# Altium integrated library TI Data Converters Analog to Digital Converter.IntLib: 2198 symbols (part 8 of 164)
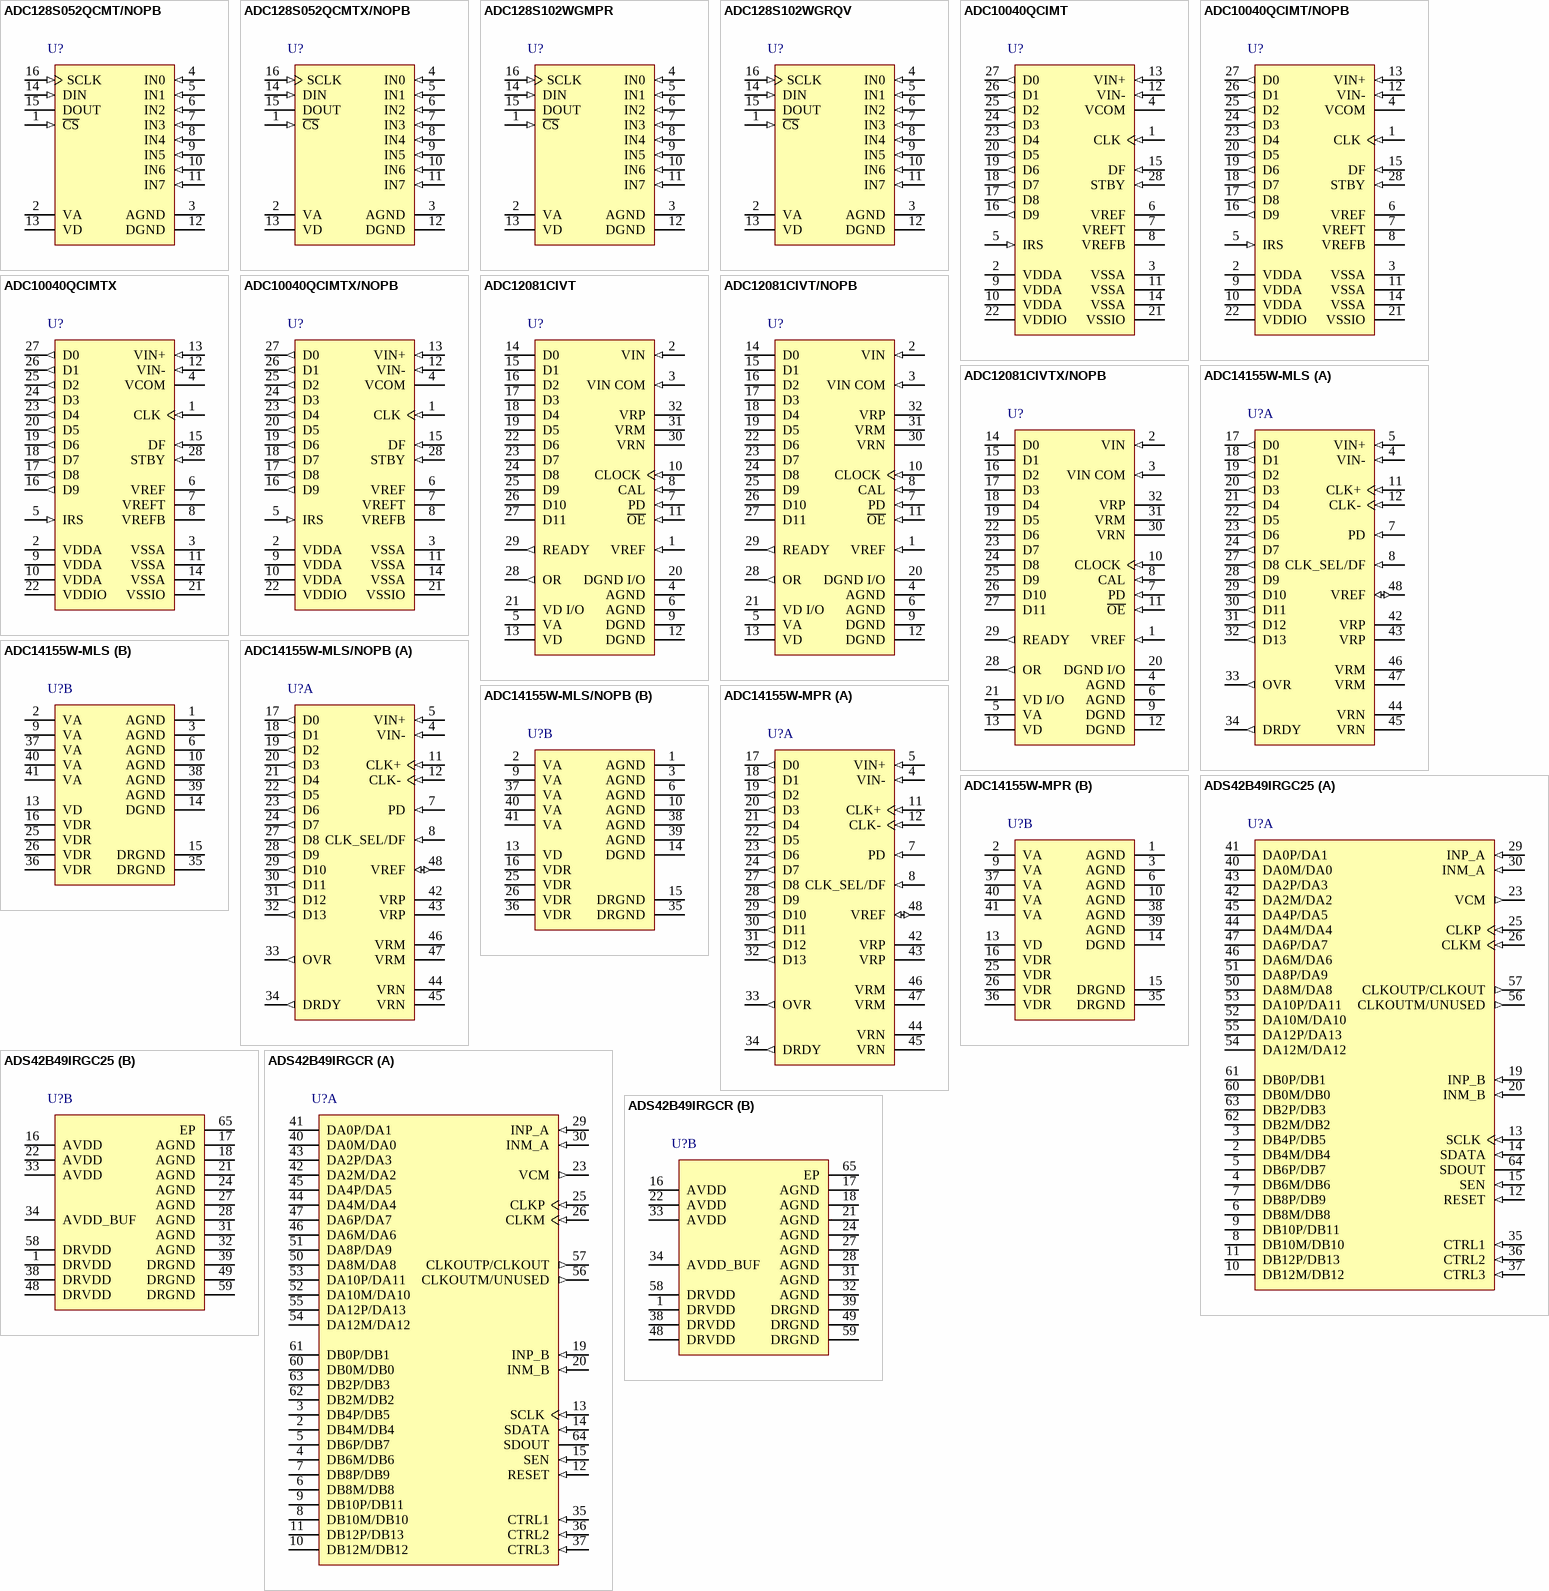
[diagram p133: symbols ADC128S052QCMT/NOPB to ADS42B49IRGCR]

## ADC14155W-MLS/NOPB
designator U?
14-Bit, 155 MSPS, 1.1 GHz Bandwidth ADC, -55 to 125 degC, 48-pin CFP (NBA48), Green (RoHS & no Sb/Br); Manufacturer: Texas Instruments; PartNumber: ADC14155W-MLS/NOPB; # Input Channels: 1; Analog Voltage AV/DD(Max)(V): 3.6; Analog Voltage AV/DD(Min)(V): 3; Architecture: Pipeline; Digital Supply(Min)(V): 1.6; ENOB(Bits): 11.3; INL(Max)(+/-LSB): 5; Resolution(Bits): 14; Sample Rate(max)(SPS): 155M; SFDR(dB): 82.3; SINAD(dB): 69.9; SNR(dB): 70.1; SubFamily: High Speed ADC (>10MSPS); DatasheetVersion: SNAS378I; PackageVersion: Rev. B, 08/2012; PackageReference: NBA48; PackageDescription: 48-Pin Ceramic, Metal Flat Pack, Body 11.5 x 11.5 mm, Pitch 0.635 mm; Supplier 1: Digi-Key; Supplier Part Number 1: ADS7866IDBVTG4-ND; Digital Supply(Max)(V): 3.6; Eco-Plan: Green (RoHS & no Sb/Br); Mounting Technology: Surface Mount; ComponentLink1Description: Manufacturer URL; ComponentLink1URL: http://www.ti.com/; ComponentLink2Description: Datasheet; ComponentLink2URL: http://www.ti.com/lit/ds/symlink/adc14155qml-sp.pdf; ComponentLink3Description: Package Specification; ComponentLink3URL: http://www.ti.com/litv/pdf/mcqf021
footprint TI-NBA48_N (CQFP, 48-Leads, Body 11.5x11.5mm, Pitch 0.635mm, Thermal Pad 6.13x6.13mm, IPC Medium Density)
footprint TI-NBA48_L (CQFP, 48-Leads, Body 11.5x11.5mm, Pitch 0.635mm, Thermal Pad 6.13x6.13mm, IPC High Density)
footprint TI-NBA48_M (CQFP, 48-Leads, Body 11.5x11.5mm, Pitch 0.635mm, Thermal Pad 6.13x6.13mm, IPC Low Density)
part A pins: 4 VIN- (in) "Differential analog input pins. The differential full-scale input signal level is two times the reference voltage with each input pin signal centered on a common mode voltage, VCM.", 5 VIN+ (in) "Differential analog input pins. The differential full-scale input signal level is two times the reference voltage with each input pin signal centered on a common mode voltage, VCM.", 7 PD (in) "This is a two-state input controlling Power Down. PD = VA, Power Down is enabled. In the Power Down state only the reference voltage circuitry remains active and power dissipation is reduced. PD = AGND, Normal operation.", 8 CLK_SEL/DF (in) "This is a four-state pin controlling the input clock mode and output data format. CLK_SEL/DF = VA, CLK+ and CLK? are configured as a differential clock input. The output data format is 2's complement. CLK_SEL/DF (See Datasheet)", 11 CLK+ (in) "The clock input pins can be configured to accept either a singleended or a differential clock input signal. When the single-ended clock mode is selected through CLK_SEL/DF pin 8), connect the clock input signal to the CLK+ (See Datasheet)", 12 CLK- (in) "The clock input pins can be configured to accept either a singleended or a differential clock input signal. When the single-ended clock mode is selected through CLK_SEL/DF pin 8), connect the clock input signal to the CLK+ (See Datasheet)", 17 D0 (out) "Digital data output pins that make up the 14-bit conversion result. D0 (pin 17) is the LSB, while D13 (pin 32) is the MSB of the output word. Output levels are CMOS compatible.", 18 D1 (out) "Digital data output pins that make up the 14-bit conversion result. D0 (pin 17) is the LSB, while D13 (pin 32) is the MSB of the output word. Output levels are CMOS compatible.", 19 D2 (out) "Digital data output pins that make up the 14-bit conversion result. D0 (pin 17) is the LSB, while D13 (pin 32) is the MSB of the output word. Output levels are CMOS compatible.", 20 D3 (out) "Digital data output pins that make up the 14-bit conversion result. D0 (pin 17) is the LSB, while D13 (pin 32) is the MSB of the output word. Output levels are CMOS compatible.", 21 D4 (out) "Digital data output pins that make up the 14-bit conversion result. D0 (pin 17) is the LSB, while D13 (pin 32) is the MSB of the output word. Output levels are CMOS compatible.", 22 D5 (out) "Digital data output pins that make up the 14-bit conversion result. D0 (pin 17) is the LSB, while D13 (pin 32) is the MSB of the output word. Output levels are CMOS compatible.", 23 D6 (out) "Digital data output pins that make up the 14-bit conversion result. D0 (pin 17) is the LSB, while D13 (pin 32) is the MSB of the output word. Output levels are CMOS compatible.", 24 D7 (out) "Digital data output pins that make up the 14-bit conversion result. D0 (pin 17) is the LSB, while D13 (pin 32) is the MSB of the output word. Output levels are CMOS compatible.", 27 D8 (out) "Digital data output pins that make up the 14-bit conversion result. D0 (pin 17) is the LSB, while D13 (pin 32) is the MSB of the output word. Output levels are CMOS compatible.", 28 D9 (out) "Digital data output pins that make up the 14-bit conversion result. D0 (pin 17) is the LSB, while D13 (pin 32) is the MSB of the output word. Output levels are CMOS compatible.", 29 D10 (out) "Digital data output pins that make up the 14-bit conversion result. D0 (pin 17) is the LSB, while D13 (pin 32) is the MSB of the output word. Output levels are CMOS compatible.", 30 D11 (out) "Digital data output pins that make up the 14-bit conversion result. D0 (pin 17) is the LSB, while D13 (pin 32) is the MSB of the output word. Output levels are CMOS compatible.", 31 D12 (out) "Digital data output pins that make up the 14-bit conversion result. D0 (pin 17) is the LSB, while D13 (pin 32) is the MSB of the output word. Output levels are CMOS compatible.", 32 D13 (out) "Digital data output pins that make up the 14-bit conversion result. D0 (pin 17) is the LSB, while D13 (pin 32) is the MSB of the output word. Output levels are CMOS compatible.", 33 OVR (out) "Over-Range Indicator. This output is set HIGH when the input amplitude exceeds the 14-bit conversion range (0 to 16383).", 34 DRDY (out) "Data Ready Strobe. This pin is used to clock the output data. It has the same frequency as the sampling clock. One word of data is output in each cycle of this signal. The rising edge of this signal should be used to capture (See Datasheet)", 42 VRP "These pins should each be bypassed to AGND with a low ESL (equivalent series inductance) 0.1 uF capacitor placed very close to the pin to minimize stray inductance. A 0.1 uF capacitor should be placed between VRP and VRN as (See Datasheet)", 43 VRP "These pins should each be bypassed to AGND with a low ESL (equivalent series inductance) 0.1 uF capacitor placed very close to the pin to minimize stray inductance. A 0.1 uF capacitor should be placed between VRP and VRN as (See Datasheet)", 44 VRN "These pins should each be bypassed to AGND with a low ESL (equivalent series inductance) 0.1 uF capacitor placed very close to the pin to minimize stray inductance. A 0.1 uF capacitor should be placed between VRP and VRN as (See Datasheet)", 45 VRN "These pins should each be bypassed to AGND with a low ESL (equivalent series inductance) 0.1 uF capacitor placed very close to the pin to minimize stray inductance. A 0.1 uF capacitor should be placed between VRP and VRN as (See Datasheet)", 46 VRM "These pins should each be bypassed to AGND with a low ESL (equivalent series inductance) 0.1 uF capacitor placed very close to the pin to minimize stray inductance. A 0.1 uF capacitor should be placed between VRP and VRN as (See Datasheet)", 47 VRM "These pins should each be bypassed to AGND with a low ESL (equivalent series inductance) 0.1 uF capacitor placed very close to the pin to minimize stray inductance. A 0.1 uF capacitor should be placed between VRP and VRN as (See Datasheet)", 48 VREF (io) "This pin can be used as either the +1.0V internal reference voltage output (internal reference operation) or as the external reference voltage input (external reference operation). To use the internal reference, VREF should (See Datasheet)"
part B pins: 1 AGND (power) "The ground return for the analog supply.", 2 VA (power) "Positive analog supply pins. These pins should be connected to a quiet +3.3V source and be bypassed to AGND with 100 pF and 0.1 uF capacitors located close to the power pins.", 3 AGND (power) "The ground return for the analog supply.", 6 AGND (power) "The ground return for the analog supply.", 9 VA (power) "Positive analog supply pins. These pins should be connected to a quiet +3.3V source and be bypassed to AGND with 100 pF and 0.1 uF capacitors located close to the power pins.", 10 AGND (power) "The ground return for the analog supply.", 13 VD (power) "Positive digital supply pin. This pin should be connected to a quiet +3.3V source and be bypassed to DGND with a 100 pF and 0.1 uF capacitor located close to the power pin.", 14 DGND (power) "The ground return for the digital supply", 15 DRGND (power) "The ground return for the digital output driver supply. These pins should be connected to the system digital ground. See LAYOUT AND GROUNDING (Layout and Grounding) for more details.", 16 VDR (power) "Positive driver supply pin for the output drivers. This pin should be connected to a quiet voltage source of +1.8V and be bypassed to DRGND with 100 pF and 0.1 uF capacitors located close to the power pins.", 25 VDR (power) "Positive driver supply pin for the output drivers. This pin should be connected to a quiet voltage source of +1.8V and be bypassed to DRGND with 100 pF and 0.1 uF capacitors located close to the power pins.", 26 VDR (power) "Positive driver supply pin for the output drivers. This pin should be connected to a quiet voltage source of +1.8V and be bypassed to DRGND with 100 pF and 0.1 uF capacitors located close to the power pins.", 35 DRGND (power) "The ground return for the digital output driver supply. These pins should be connected to the system digital ground. See LAYOUT AND GROUNDING (Layout and Grounding) for more details.", 36 VDR (power) "Positive driver supply pin for the output drivers. This pin should be connected to a quiet voltage source of +1.8V and be bypassed to DRGND with 100 pF and 0.1 uF capacitors located close to the power pins.", 37 VA (power) "Positive analog supply pins. These pins should be connected to a quiet +3.3V source and be bypassed to AGND with 100 pF and 0.1 uF capacitors located close to the power pins.", 38 AGND (power) "The ground return for the analog supply.", 39 AGND (power) "The ground return for the analog supply.", 40 VA (power) "Positive analog supply pins. These pins should be connected to a quiet +3.3V source and be bypassed to AGND with 100 pF and 0.1 uF capacitors located close to the power pins.", 41 VA (power) "Positive analog supply pins. These pins should be connected to a quiet +3.3V source and be bypassed to AGND with 100 pF and 0.1 uF capacitors located close to the power pins."

## ADC14155W-MPR
designator U?
14-Bit, 155 MSPS, 1.1 GHz Bandwidth ADC, -55 to 125 degC, 48-pin CFP (NBA48), Green (RoHS & no Sb/Br); Manufacturer: Texas Instruments; PartNumber: ADC14155W-MPR; # Input Channels: 1; Analog Voltage AV/DD(Max)(V): 3.6; Analog Voltage AV/DD(Min)(V): 3; Architecture: Pipeline; Digital Supply(Min)(V): 1.6; ENOB(Bits): 11.3; INL(Max)(+/-LSB): 5; Resolution(Bits): 14; Sample Rate(max)(SPS): 155M; SFDR(dB): 82.3; SINAD(dB): 69.9; SNR(dB): 70.1; SubFamily: High Speed ADC (>10MSPS); DatasheetVersion: SNAS378I; PackageVersion: Rev. B, 08/2012; PackageReference: NBA48; PackageDescription: 48-Pin Ceramic, Metal Flat Pack, Body 11.5 x 11.5 mm, Pitch 0.635 mm; Supplier 1: Digi-Key; Supplier Part Number 1: 296-25890-2-ND; Digital Supply(Max)(V): 3.6; Eco-Plan: Green (RoHS & no Sb/Br); Mounting Technology: Surface Mount; ComponentLink1Description: Manufacturer URL; ComponentLink1URL: http://www.ti.com/; ComponentLink2Description: Datasheet; ComponentLink2URL: http://www.ti.com/lit/ds/symlink/adc14155qml-sp.pdf; ComponentLink3Description: Package Specification; ComponentLink3URL: http://www.ti.com/litv/pdf/mcqf021
footprint TI-NBA48_N (CQFP, 48-Leads, Body 11.5x11.5mm, Pitch 0.635mm, Thermal Pad 6.13x6.13mm, IPC Medium Density)
footprint TI-NBA48_L (CQFP, 48-Leads, Body 11.5x11.5mm, Pitch 0.635mm, Thermal Pad 6.13x6.13mm, IPC High Density)
footprint TI-NBA48_M (CQFP, 48-Leads, Body 11.5x11.5mm, Pitch 0.635mm, Thermal Pad 6.13x6.13mm, IPC Low Density)
part A pins: 4 VIN- (in) "Differential analog input pins. The differential full-scale input signal level is two times the reference voltage with each input pin signal centered on a common mode voltage, VCM.", 5 VIN+ (in) "Differential analog input pins. The differential full-scale input signal level is two times the reference voltage with each input pin signal centered on a common mode voltage, VCM.", 7 PD (in) "This is a two-state input controlling Power Down. PD = VA, Power Down is enabled. In the Power Down state only the reference voltage circuitry remains active and power dissipation is reduced. PD = AGND, Normal operation.", 8 CLK_SEL/DF (in) "This is a four-state pin controlling the input clock mode and output data format. CLK_SEL/DF = VA, CLK+ and CLK? are configured as a differential clock input. The output data format is 2's complement. CLK_SEL/DF (See Datasheet)", 11 CLK+ (in) "The clock input pins can be configured to accept either a singleended or a differential clock input signal. When the single-ended clock mode is selected through CLK_SEL/DF pin 8), connect the clock input signal to the CLK+ (See Datasheet)", 12 CLK- (in) "The clock input pins can be configured to accept either a singleended or a differential clock input signal. When the single-ended clock mode is selected through CLK_SEL/DF pin 8), connect the clock input signal to the CLK+ (See Datasheet)", 17 D0 (out) "Digital data output pins that make up the 14-bit conversion result. D0 (pin 17) is the LSB, while D13 (pin 32) is the MSB of the output word. Output levels are CMOS compatible.", 18 D1 (out) "Digital data output pins that make up the 14-bit conversion result. D0 (pin 17) is the LSB, while D13 (pin 32) is the MSB of the output word. Output levels are CMOS compatible.", 19 D2 (out) "Digital data output pins that make up the 14-bit conversion result. D0 (pin 17) is the LSB, while D13 (pin 32) is the MSB of the output word. Output levels are CMOS compatible.", 20 D3 (out) "Digital data output pins that make up the 14-bit conversion result. D0 (pin 17) is the LSB, while D13 (pin 32) is the MSB of the output word. Output levels are CMOS compatible.", 21 D4 (out) "Digital data output pins that make up the 14-bit conversion result. D0 (pin 17) is the LSB, while D13 (pin 32) is the MSB of the output word. Output levels are CMOS compatible.", 22 D5 (out) "Digital data output pins that make up the 14-bit conversion result. D0 (pin 17) is the LSB, while D13 (pin 32) is the MSB of the output word. Output levels are CMOS compatible.", 23 D6 (out) "Digital data output pins that make up the 14-bit conversion result. D0 (pin 17) is the LSB, while D13 (pin 32) is the MSB of the output word. Output levels are CMOS compatible.", 24 D7 (out) "Digital data output pins that make up the 14-bit conversion result. D0 (pin 17) is the LSB, while D13 (pin 32) is the MSB of the output word. Output levels are CMOS compatible.", 27 D8 (out) "Digital data output pins that make up the 14-bit conversion result. D0 (pin 17) is the LSB, while D13 (pin 32) is the MSB of the output word. Output levels are CMOS compatible.", 28 D9 (out) "Digital data output pins that make up the 14-bit conversion result. D0 (pin 17) is the LSB, while D13 (pin 32) is the MSB of the output word. Output levels are CMOS compatible.", 29 D10 (out) "Digital data output pins that make up the 14-bit conversion result. D0 (pin 17) is the LSB, while D13 (pin 32) is the MSB of the output word. Output levels are CMOS compatible.", 30 D11 (out) "Digital data output pins that make up the 14-bit conversion result. D0 (pin 17) is the LSB, while D13 (pin 32) is the MSB of the output word. Output levels are CMOS compatible.", 31 D12 (out) "Digital data output pins that make up the 14-bit conversion result. D0 (pin 17) is the LSB, while D13 (pin 32) is the MSB of the output word. Output levels are CMOS compatible.", 32 D13 (out) "Digital data output pins that make up the 14-bit conversion result. D0 (pin 17) is the LSB, while D13 (pin 32) is the MSB of the output word. Output levels are CMOS compatible.", 33 OVR (out) "Over-Range Indicator. This output is set HIGH when the input amplitude exceeds the 14-bit conversion range (0 to 16383).", 34 DRDY (out) "Data Ready Strobe. This pin is used to clock the output data. It has the same frequency as the sampling clock. One word of data is output in each cycle of this signal. The rising edge of this signal should be used to capture (See Datasheet)", 42 VRP "These pins should each be bypassed to AGND with a low ESL (equivalent series inductance) 0.1 uF capacitor placed very close to the pin to minimize stray inductance. A 0.1 uF capacitor should be placed between VRP and VRN as (See Datasheet)", 43 VRP "These pins should each be bypassed to AGND with a low ESL (equivalent series inductance) 0.1 uF capacitor placed very close to the pin to minimize stray inductance. A 0.1 uF capacitor should be placed between VRP and VRN as (See Datasheet)", 44 VRN "These pins should each be bypassed to AGND with a low ESL (equivalent series inductance) 0.1 uF capacitor placed very close to the pin to minimize stray inductance. A 0.1 uF capacitor should be placed between VRP and VRN as (See Datasheet)", 45 VRN "These pins should each be bypassed to AGND with a low ESL (equivalent series inductance) 0.1 uF capacitor placed very close to the pin to minimize stray inductance. A 0.1 uF capacitor should be placed between VRP and VRN as (See Datasheet)", 46 VRM "These pins should each be bypassed to AGND with a low ESL (equivalent series inductance) 0.1 uF capacitor placed very close to the pin to minimize stray inductance. A 0.1 uF capacitor should be placed between VRP and VRN as (See Datasheet)", 47 VRM "These pins should each be bypassed to AGND with a low ESL (equivalent series inductance) 0.1 uF capacitor placed very close to the pin to minimize stray inductance. A 0.1 uF capacitor should be placed between VRP and VRN as (See Datasheet)", 48 VREF (io) "This pin can be used as either the +1.0V internal reference voltage output (internal reference operation) or as the external reference voltage input (external reference operation). To use the internal reference, VREF should (See Datasheet)"
part B pins: 1 AGND (power) "The ground return for the analog supply.", 2 VA (power) "Positive analog supply pins. These pins should be connected to a quiet +3.3V source and be bypassed to AGND with 100 pF and 0.1 uF capacitors located close to the power pins.", 3 AGND (power) "The ground return for the analog supply.", 6 AGND (power) "The ground return for the analog supply.", 9 VA (power) "Positive analog supply pins. These pins should be connected to a quiet +3.3V source and be bypassed to AGND with 100 pF and 0.1 uF capacitors located close to the power pins.", 10 AGND (power) "The ground return for the analog supply.", 13 VD (power) "Positive digital supply pin. This pin should be connected to a quiet +3.3V source and be bypassed to DGND with a 100 pF and 0.1 uF capacitor located close to the power pin.", 14 DGND (power) "The ground return for the digital supply", 15 DRGND (power) "The ground return for the digital output driver supply. These pins should be connected to the system digital ground. See LAYOUT AND GROUNDING (Layout and Grounding) for more details.", 16 VDR (power) "Positive driver supply pin for the output drivers. This pin should be connected to a quiet voltage source of +1.8V and be bypassed to DRGND with 100 pF and 0.1 uF capacitors located close to the power pins.", 25 VDR (power) "Positive driver supply pin for the output drivers. This pin should be connected to a quiet voltage source of +1.8V and be bypassed to DRGND with 100 pF and 0.1 uF capacitors located close to the power pins.", 26 VDR (power) "Positive driver supply pin for the output drivers. This pin should be connected to a quiet voltage source of +1.8V and be bypassed to DRGND with 100 pF and 0.1 uF capacitors located close to the power pins.", 35 DRGND (power) "The ground return for the digital output driver supply. These pins should be connected to the system digital ground. See LAYOUT AND GROUNDING (Layout and Grounding) for more details.", 36 VDR (power) "Positive driver supply pin for the output drivers. This pin should be connected to a quiet voltage source of +1.8V and be bypassed to DRGND with 100 pF and 0.1 uF capacitors located close to the power pins.", 37 VA (power) "Positive analog supply pins. These pins should be connected to a quiet +3.3V source and be bypassed to AGND with 100 pF and 0.1 uF capacitors located close to the power pins.", 38 AGND (power) "The ground return for the analog supply.", 39 AGND (power) "The ground return for the analog supply.", 40 VA (power) "Positive analog supply pins. These pins should be connected to a quiet +3.3V source and be bypassed to AGND with 100 pF and 0.1 uF capacitors located close to the power pins.", 41 VA (power) "Positive analog supply pins. These pins should be connected to a quiet +3.3V source and be bypassed to AGND with 100 pF and 0.1 uF capacitors located close to the power pins."

## ADS42B49IRGC25
designator U?
Dual-Channel 14-Bit, 250 MSPS Ultralow-Power ADC with Analog Input Buffer, -40 to 85 degC, 64-pin QFN (RGC64), Green (RoHS & no Sb/Br); Manufacturer: Texas Instruments; PartNumber: ADS42B49IRGC25; # Input Channels: 2; Analog Voltage AV/DD(Min)(V): 1.8; Architecture: Pipeline; Digital Supply(Min)(V): 1.7; ENOB(Bits): 11.4; Interface: Parallel CMOS, Parallel LVDS; Resolution(Bits): 14; Sample Rate(max)(SPS): 250M; SFDR(dB): 85; SINAD(dB): 70.4; SNR(dB): 70.7; SubFamily: High Speed ADC (>10MSPS); DatasheetVersion: SBAS558B; PackageVersion: 4204106/F, 11/2011; PackageReference: RGC64-7400X7400TP; PackageDescription: 64-Pin Plastic Quad Flatpack No-Lead, Body 9 x 9 mm, Pitch 0.5 mm; Supplier 1: Digi-Key; Supplier Part Number 1: ADS1110A0IDBVRG4-ND; Analog Voltage AV/DD(Max)(V): 2; Digital Supply(Max)(V): 2; Eco-Plan: Green (RoHS & no Sb/Br); INL(Max)(+/-LSB): 2; Mounting Technology: Surface Mount; ComponentLink1Description: Manufacturer URL; ComponentLink1URL: http://www.ti.com/; ComponentLink2Description: Datasheet; ComponentLink2URL: http://www.ti.com/lit/ds/symlink/ads42b49.pdf; ComponentLink3Description: Package Specification; ComponentLink3URL: http://www.ti.com/litv/pdf/mpqf125e
footprint TI-RGC64-7400X7400TP_V (QFN, 64-Leads, Body 9x9mm, Pitch 0.5mm, Thermal Pad 7.4x7.4mm, TI Recommended)
part A pins: 2 DB4M/DB4 (hiz), 3 DB4P/DB5 (hiz), 4 DB6M/DB6 (hiz), 5 DB6P/DB7 (hiz), 6 DB8M/DB8 (hiz), 7 DB8P/DB9 (hiz), 8 DB10M/DB10 (hiz), 9 DB10P/DB11 (hiz), 10 DB12M/DB12 (hiz), 11 DB12P/DB13 (hiz), 12 RESET (in) "Serial interface RESET input. When using the serial interface mode, the internal registers must be initialized through a hardware RESET by applying a high pulse on this pin or by using the software reset option; refer to the (See Datasheet)", 13 SCLK (in) "This pin functions as a serial interface clock input when RESET is low. It controls the low-speed mode selection when RESET is tied high; see Table 5 for detailed information. This pin has an internal 150kohm pull-down (See Datasheet)", 14 SDATA (in) "Serial interface data input; this pin has an internal 150kohm pull-down resistor.", 15 SEN (in) "This pin functions as a serial interface enable input when RESET is low. It controls the output interface and data format selection when RESET is tied high; see Table 6 for detailed information. This pin has an internal (See Datasheet)", 19 INP_B (in) "Differential analog positive input, channel B", 20 INM_B (in) "Differential analog negative input, channel B", 23 VCM (out) "This pin outputs the common-mode voltage (0.95V) that can be used externally to bias the analog input pins", 25 CLKP (in) "Differential clock positive input", 26 CLKM (in) "Differential clock negative input", 29 INP_A (in) "Differential analog positive input, channel A", 30 INM_A (in) "Differential analog negative input, channel A", 35 CTRL1 (in) "Digital control input pins. Together, they control the various power-down modes.", 36 CTRL2 (in) "Digital control input pins. Together, they control the various power-down modes.", 37 CTRL3 (in) "Digital control input pins. Together, they control the various power-down modes.", 40 DA0M/DA0 (hiz), 41 DA0P/DA1 (hiz), 42 DA2M/DA2 (hiz), 43 DA2P/DA3 (hiz), 44 DA4M/DA4 (hiz), 45 DA4P/DA5 (hiz), 46 DA6M/DA6 (hiz), 47 DA6P/DA7 (hiz), 50 DA8M/DA8 (hiz), 51 DA8P/DA9 (hiz), 52 DA10M/DA10 (hiz), 53 DA10P/DA11 (hiz), 54 DA12M/DA12 (hiz), 55 DA12P/DA13 (hiz), 56 CLKOUTM/UNUSED (out), 57 CLKOUTP/CLKOUT (out), 60 DB0M/DB0 (hiz), 61 DB0P/DB1 (hiz), 62 DB2M/DB2 (hiz), 63 DB2P/DB3 (hiz), 64 SDOUT (hiz) "This pin functions as a serial interface register readout when the READOUT bit is enabled. When READOUT = 0, this pin is in high-impedance state."
part B pins: 1 DRVDD (power) "Output buffer supply", 16 AVDD (power) "Analog power supply", 17 AGND (power) "Analog ground", 18 AGND (power) "Analog ground", 21 AGND (power) "Analog ground", 22 AVDD (power) "Analog power supply", 24 AGND (power) "Analog ground", 27 AGND (power) "Analog ground", 28 AGND (power) "Analog ground", 31 AGND (power) "Analog ground", 32 AGND (power) "Analog ground", 33 AVDD (power) "Analog power supply", 34 AVDD_BUF (power) "Analog buffer supply", 38 DRVDD (power) "Output buffer supply", 39 DRGND (power) "Output buffer ground", 48 DRVDD (power) "Output buffer supply", 49 DRGND (power) "Output buffer ground", 58 DRVDD (power) "Output buffer supply", 59 DRGND (power) "Output buffer ground", 65 EP (power)

## ADS42B49IRGCR
designator U?
Dual-Channel 14-Bit, 250 MSPS Ultralow-Power ADC with Analog Input Buffer, -40 to 85 degC, 64-pin QFN (RGC64), Green (RoHS & no Sb/Br); Manufacturer: Texas Instruments; PartNumber: ADS42B49IRGCR; # Input Channels: 2; Analog Voltage AV/DD(Min)(V): 1.8; Architecture: Pipeline; Digital Supply(Min)(V): 1.7; ENOB(Bits): 11.4; Interface: Parallel CMOS, Parallel LVDS; Resolution(Bits): 14; Sample Rate(max)(SPS): 250M; SFDR(dB): 85; SINAD(dB): 70.4; SNR(dB): 70.7; SubFamily: High Speed ADC (>10MSPS); DatasheetVersion: SBAS558B; PackageVersion: 4204106/F, 11/2011; PackageReference: RGC64-7400X7400TP; PackageDescription: 64-Pin Plastic Quad Flatpack No-Lead, Body 9 x 9 mm, Pitch 0.5 mm; Supplier 1: Digi-Key; Supplier Part Number 1: 296-14461-2-ND; Analog Voltage AV/DD(Max)(V): 2; Digital Supply(Max)(V): 2; Eco-Plan: Green (RoHS & no Sb/Br); INL(Max)(+/-LSB): 2; Mounting Technology: Surface Mount; ComponentLink1Description: Manufacturer URL; ComponentLink1URL: http://www.ti.com/; ComponentLink2Description: Datasheet; ComponentLink2URL: http://www.ti.com/lit/ds/symlink/ads42b49.pdf; ComponentLink3Description: Package Specification; ComponentLink3URL: http://www.ti.com/litv/pdf/mpqf125e
footprint TI-RGC64-7400X7400TP_V (QFN, 64-Leads, Body 9x9mm, Pitch 0.5mm, Thermal Pad 7.4x7.4mm, TI Recommended)
part A pins: 2 DB4M/DB4 (hiz), 3 DB4P/DB5 (hiz), 4 DB6M/DB6 (hiz), 5 DB6P/DB7 (hiz), 6 DB8M/DB8 (hiz), 7 DB8P/DB9 (hiz), 8 DB10M/DB10 (hiz), 9 DB10P/DB11 (hiz), 10 DB12M/DB12 (hiz), 11 DB12P/DB13 (hiz), 12 RESET (in) "Serial interface RESET input. When using the serial interface mode, the internal registers must be initialized through a hardware RESET by applying a high pulse on this pin or by using the software reset option; refer to the (See Datasheet)", 13 SCLK (in) "This pin functions as a serial interface clock input when RESET is low. It controls the low-speed mode selection when RESET is tied high; see Table 5 for detailed information. This pin has an internal 150kohm pull-down (See Datasheet)", 14 SDATA (in) "Serial interface data input; this pin has an internal 150kohm pull-down resistor.", 15 SEN (in) "This pin functions as a serial interface enable input when RESET is low. It controls the output interface and data format selection when RESET is tied high; see Table 6 for detailed information. This pin has an internal (See Datasheet)", 19 INP_B (in) "Differential analog positive input, channel B", 20 INM_B (in) "Differential analog negative input, channel B", 23 VCM (out) "This pin outputs the common-mode voltage (0.95V) that can be used externally to bias the analog input pins", 25 CLKP (in) "Differential clock positive input", 26 CLKM (in) "Differential clock negative input", 29 INP_A (in) "Differential analog positive input, channel A", 30 INM_A (in) "Differential analog negative input, channel A", 35 CTRL1 (in) "Digital control input pins. Together, they control the various power-down modes.", 36 CTRL2 (in) "Digital control input pins. Together, they control the various power-down modes.", 37 CTRL3 (in) "Digital control input pins. Together, they control the various power-down modes.", 40 DA0M/DA0 (hiz), 41 DA0P/DA1 (hiz), 42 DA2M/DA2 (hiz), 43 DA2P/DA3 (hiz), 44 DA4M/DA4 (hiz), 45 DA4P/DA5 (hiz), 46 DA6M/DA6 (hiz), 47 DA6P/DA7 (hiz), 50 DA8M/DA8 (hiz), 51 DA8P/DA9 (hiz), 52 DA10M/DA10 (hiz), 53 DA10P/DA11 (hiz), 54 DA12M/DA12 (hiz), 55 DA12P/DA13 (hiz), 56 CLKOUTM/UNUSED (out), 57 CLKOUTP/CLKOUT (out), 60 DB0M/DB0 (hiz), 61 DB0P/DB1 (hiz), 62 DB2M/DB2 (hiz), 63 DB2P/DB3 (hiz), 64 SDOUT (hiz) "This pin functions as a serial interface register readout when the READOUT bit is enabled. When READOUT = 0, this pin is in high-impedance state."
part B pins: 1 DRVDD (power) "Output buffer supply", 16 AVDD (power) "Analog power supply", 17 AGND (power) "Analog ground", 18 AGND (power) "Analog ground", 21 AGND (power) "Analog ground", 22 AVDD (power) "Analog power supply", 24 AGND (power) "Analog ground", 27 AGND (power) "Analog ground", 28 AGND (power) "Analog ground", 31 AGND (power) "Analog ground", 32 AGND (power) "Analog ground", 33 AVDD (power) "Analog power supply", 34 AVDD_BUF (power) "Analog buffer supply", 38 DRVDD (power) "Output buffer supply", 39 DRGND (power) "Output buffer ground", 48 DRVDD (power) "Output buffer supply", 49 DRGND (power) "Output buffer ground", 58 DRVDD (power) "Output buffer supply", 59 DRGND (power) "Output buffer ground", 65 EP (power)

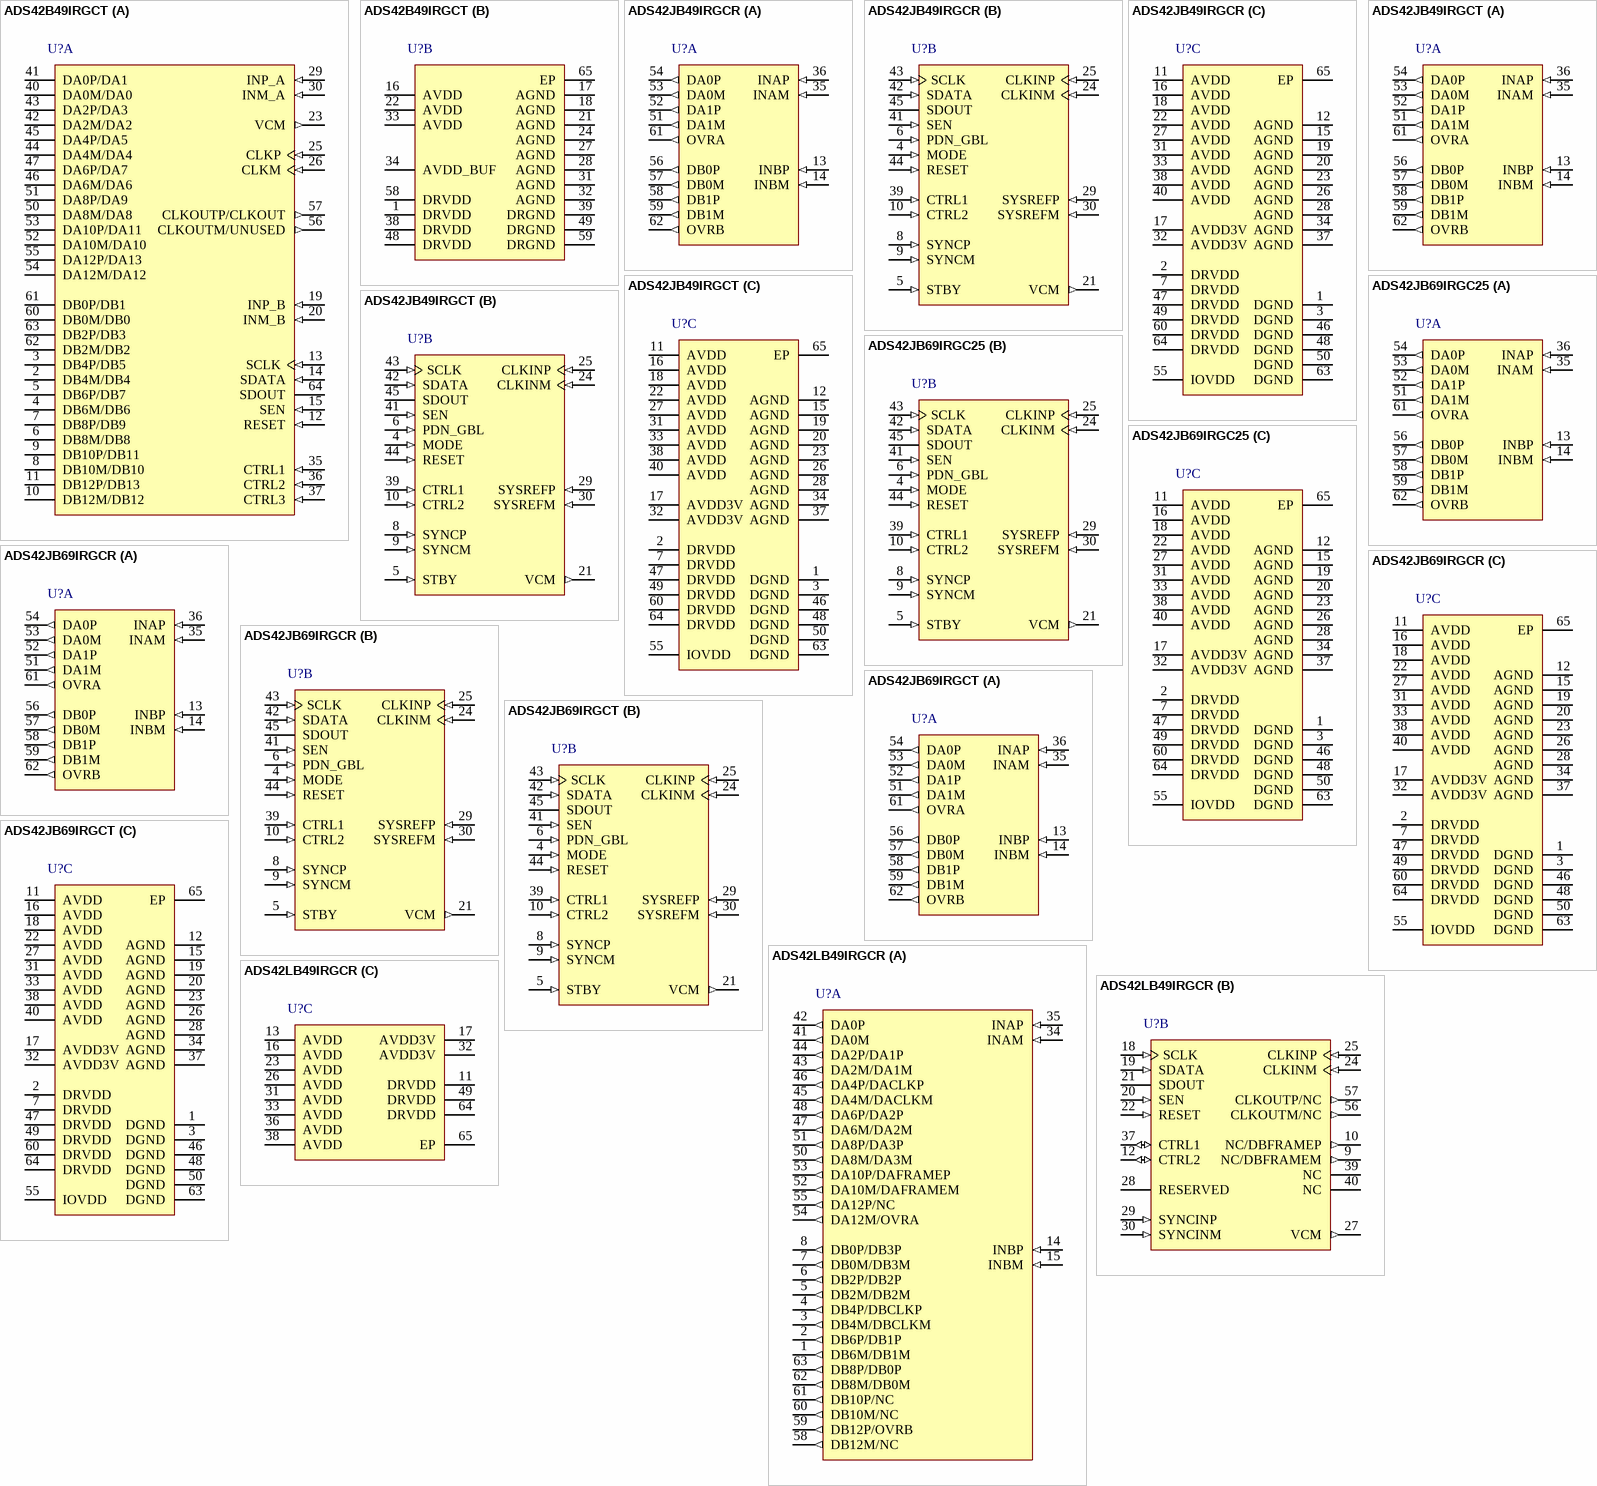
[diagram p3: symbols ADS42B49IRGCT to ADS42LB49IRGCR]

## ADS42B49IRGCT
designator U?
Dual-Channel 14-Bit, 250 MSPS Ultralow-Power ADC with Analog Input Buffer, -40 to 85 degC, 64-pin QFN (RGC64), Green (RoHS & no Sb/Br); Manufacturer: Texas Instruments; PartNumber: ADS42B49IRGCT; # Input Channels: 2; Analog Voltage AV/DD(Min)(V): 1.8; Architecture: Pipeline; Digital Supply(Min)(V): 1.7; ENOB(Bits): 11.4; Interface: Parallel CMOS, Parallel LVDS; Resolution(Bits): 14; Sample Rate(max)(SPS): 250M; SFDR(dB): 85; SINAD(dB): 70.4; SNR(dB): 70.7; SubFamily: High Speed ADC (>10MSPS); DatasheetVersion: SBAS558B; PackageVersion: 4204106/F, 11/2011; PackageReference: RGC64-7400X7400TP; PackageDescription: 64-Pin Plastic Quad Flatpack No-Lead, Body 9 x 9 mm, Pitch 0.5 mm; Supplier 1: Digi-Key; Supplier Part Number 1: ADS1110A0IDBVTG4-ND; Analog Voltage AV/DD(Max)(V): 2; Digital Supply(Max)(V): 2; Eco-Plan: Green (RoHS & no Sb/Br); INL(Max)(+/-LSB): 2; Mounting Technology: Surface Mount; ComponentLink1Description: Manufacturer URL; ComponentLink1URL: http://www.ti.com/; ComponentLink2Description: Datasheet; ComponentLink2URL: http://www.ti.com/lit/ds/symlink/ads42b49.pdf; ComponentLink3Description: Package Specification; ComponentLink3URL: http://www.ti.com/litv/pdf/mpqf125e
footprint TI-RGC64-7400X7400TP_V (QFN, 64-Leads, Body 9x9mm, Pitch 0.5mm, Thermal Pad 7.4x7.4mm, TI Recommended)
part A pins: 2 DB4M/DB4 (hiz), 3 DB4P/DB5 (hiz), 4 DB6M/DB6 (hiz), 5 DB6P/DB7 (hiz), 6 DB8M/DB8 (hiz), 7 DB8P/DB9 (hiz), 8 DB10M/DB10 (hiz), 9 DB10P/DB11 (hiz), 10 DB12M/DB12 (hiz), 11 DB12P/DB13 (hiz), 12 RESET (in) "Serial interface RESET input. When using the serial interface mode, the internal registers must be initialized through a hardware RESET by applying a high pulse on this pin or by using the software reset option; refer to the (See Datasheet)", 13 SCLK (in) "This pin functions as a serial interface clock input when RESET is low. It controls the low-speed mode selection when RESET is tied high; see Table 5 for detailed information. This pin has an internal 150kohm pull-down (See Datasheet)", 14 SDATA (in) "Serial interface data input; this pin has an internal 150kohm pull-down resistor.", 15 SEN (in) "This pin functions as a serial interface enable input when RESET is low. It controls the output interface and data format selection when RESET is tied high; see Table 6 for detailed information. This pin has an internal (See Datasheet)", 19 INP_B (in) "Differential analog positive input, channel B", 20 INM_B (in) "Differential analog negative input, channel B", 23 VCM (out) "This pin outputs the common-mode voltage (0.95V) that can be used externally to bias the analog input pins", 25 CLKP (in) "Differential clock positive input", 26 CLKM (in) "Differential clock negative input", 29 INP_A (in) "Differential analog positive input, channel A", 30 INM_A (in) "Differential analog negative input, channel A", 35 CTRL1 (in) "Digital control input pins. Together, they control the various power-down modes.", 36 CTRL2 (in) "Digital control input pins. Together, they control the various power-down modes.", 37 CTRL3 (in) "Digital control input pins. Together, they control the various power-down modes.", 40 DA0M/DA0 (hiz), 41 DA0P/DA1 (hiz), 42 DA2M/DA2 (hiz), 43 DA2P/DA3 (hiz), 44 DA4M/DA4 (hiz), 45 DA4P/DA5 (hiz), 46 DA6M/DA6 (hiz), 47 DA6P/DA7 (hiz), 50 DA8M/DA8 (hiz), 51 DA8P/DA9 (hiz), 52 DA10M/DA10 (hiz), 53 DA10P/DA11 (hiz), 54 DA12M/DA12 (hiz), 55 DA12P/DA13 (hiz), 56 CLKOUTM/UNUSED (out), 57 CLKOUTP/CLKOUT (out), 60 DB0M/DB0 (hiz), 61 DB0P/DB1 (hiz), 62 DB2M/DB2 (hiz), 63 DB2P/DB3 (hiz), 64 SDOUT (hiz) "This pin functions as a serial interface register readout when the READOUT bit is enabled. When READOUT = 0, this pin is in high-impedance state."
part B pins: 1 DRVDD (power) "Output buffer supply", 16 AVDD (power) "Analog power supply", 17 AGND (power) "Analog ground", 18 AGND (power) "Analog ground", 21 AGND (power) "Analog ground", 22 AVDD (power) "Analog power supply", 24 AGND (power) "Analog ground", 27 AGND (power) "Analog ground", 28 AGND (power) "Analog ground", 31 AGND (power) "Analog ground", 32 AGND (power) "Analog ground", 33 AVDD (power) "Analog power supply", 34 AVDD_BUF (power) "Analog buffer supply", 38 DRVDD (power) "Output buffer supply", 39 DRGND (power) "Output buffer ground", 48 DRVDD (power) "Output buffer supply", 49 DRGND (power) "Output buffer ground", 58 DRVDD (power) "Output buffer supply", 59 DRGND (power) "Output buffer ground", 65 EP (power)

## ADS42JB49IRGCR
designator U?
Dual 14-Bit, 250 MSPS ADC, -40 to 85 degC, 64-pin QFN (RGC64), Green (RoHS & no Sb/Br); Manufacturer: Texas Instruments; PartNumber: ADS42JB49IRGCR; # Input Channels: 2; Analog Voltage AV/DD(Max)(V): 3.45; Analog Voltage AV/DD(Min)(V): 3.15; Architecture: Pipeline; Digital Supply(Max)(V): 1.9; Digital Supply(Min)(V): 1.7; Interface: JEDEC 204B; Resolution(Bits): 14; Sample Rate(max)(SPS): 250M; SFDR(dB): 89; SNR(dB): 71.9; SubFamily: High Speed ADC (>10MSPS); DatasheetVersion: SLAS900A; PackageVersion: 4204106/F, 11/2011; PackageReference: RGC64-7400X7400TP; PackageDescription: 64-Pin Plastic Quad Flatpack No-Lead, Body 9 x 9 mm, Pitch 0.5 mm; Supplier 1: Digi-Key; Supplier Part Number 1: ADS1110A1IDBVR-ND; Mounting Technology: Surface Mount; ComponentLink1Description: Manufacturer URL; ComponentLink1URL: http://www.ti.com/; ComponentLink2Description: Datasheet; ComponentLink2URL: http://www.ti.com/lit/ds/symlink/ads42jb49.pdf; ComponentLink3Description: Package Specification; ComponentLink3URL: http://www.ti.com/litv/pdf/mpqf125e
footprint TI-RGC64-7400X7400TP_V (QFN, 64-Leads, Body 9x9mm, Pitch 0.5mm, Thermal Pad 7.4x7.4mm, TI Recommended)
part A pins: 13 INBP (in) "Differential analog input for channel B", 14 INBM (in) "Differential analog input for channel B", 35 INAM (in) "Differential analog input for channel A", 36 INAP (in) "Differential analog input for channel A", 51 DA1M (out) "JESD204B Serial data output for channel A", 52 DA1P (out) "JESD204B Serial data output for channel A", 53 DA0M (out) "JESD204B Serial data output for channel A", 54 DA0P (out) "JESD204B Serial data output for channel A", 56 DB0P (out) "JESD204B Serial data output for channel B", 57 DB0M (out) "JESD204B Serial data output for channel B", 58 DB1P (out) "JESD204B Serial data output for channel B", 59 DB1M (out) "JESD204B Serial data output for channel B", 61 OVRA (out) "Overrange indication channel A", 62 OVRB (out) "Overrange indication channel B"
part B pins: 4 MODE (in) "Connect to GND", 5 STBY (in) "Standby. Active high with internal pulldown resistor", 6 PDN_GBL (in) "Global power down. Active high with internal pulldown resistor", 8 SYNCP (in) "Synchronization input for JESD204B port", 9 SYNCM (in) "Synchronization input for JESD204B port", 10 CTRL2 (in) "Power down control", 21 VCM (out) "Common mode voltage for analog inputs, 1.9V", 24 CLKINM (in) "Differential clock input for ADC", 25 CLKINP (in) "Differential clock input for ADC", 29 SYSREFP (in) "External sync input", 30 SYSREFM (in) "External sync input", 39 CTRL1 (in) "Power down control", 41 SEN (in) "Serial interface enable", 42 SDATA (in) "Serial interface data input.", 43 SCLK (in) "Serial interface clock input", 44 RESET (in) "Hardware reset. Active high. This pin has an internal 150kO pull-down resistor.", 45 SDOUT (hiz) "Serial interface data output"
part C pins: 1 DGND (power) "Digital ground", 2 DRVDD (power) "Digital 1.8V power supply", 3 DGND (power) "Digital ground", 7 DRVDD (power) "Digital 1.8V power supply", 11 AVDD (power) "Analog 1.8V power supply", 12 AGND (power) "Analog ground", 15 AGND (power) "Analog ground", 16 AVDD (power) "Analog 1.8V power supply", 17 AVDD3V (power) "Analog 3.3V for analog buffer", 18 AVDD (power) "Analog 1.8V power supply", 19 AGND (power) "Analog ground", 20 AGND (power) "Analog ground", 22 AVDD (power) "Analog 1.8V power supply", 23 AGND (power) "Analog ground", 26 AGND (power) "Analog ground", 27 AVDD (power) "Analog 1.8V power supply", 28 AGND (power) "Analog ground", 31 AVDD (power) "Analog 1.8V power supply", 32 AVDD3V (power) "Analog 3.3V for analog buffer", 33 AVDD (power) "Analog 1.8V power supply", 34 AGND (power) "Analog ground", 37 AGND (power) "Analog ground", 38 AVDD (power) "Analog 1.8V power supply", 40 AVDD (power) "Analog 1.8V power supply", 46 DGND (power) "Digital ground", 47 DRVDD (power) "Digital 1.8V power supply", 48 DGND (power) "Digital ground", 49 DRVDD (power) "Digital 1.8V power supply", 50 DGND (power) "Digital ground", 55 IOVDD (power) "Digital 1.8V power supply for the JESD204B transmitter", 60 DRVDD (power) "Digital 1.8V power supply", 63 DGND (power) "Digital ground", 64 DRVDD (power) "Digital 1.8V power supply", 65 EP (power)

## ADS42JB49IRGCT
designator U?
Dual 14-Bit, 250 MSPS ADC, -40 to 85 degC, 64-pin QFN (RGC64), Green (RoHS & no Sb/Br); Manufacturer: Texas Instruments; PartNumber: ADS42JB49IRGCT; # Input Channels: 2; Analog Voltage AV/DD(Max)(V): 3.45; Analog Voltage AV/DD(Min)(V): 3.15; Architecture: Pipeline; Digital Supply(Max)(V): 1.9; Digital Supply(Min)(V): 1.7; Interface: JEDEC 204B; Resolution(Bits): 14; Sample Rate(max)(SPS): 250M; SFDR(dB): 89; SNR(dB): 71.9; SubFamily: High Speed ADC (>10MSPS); DatasheetVersion: SLAS900A; PackageVersion: 4204106/F, 11/2011; PackageReference: RGC64-7400X7400TP; PackageDescription: 64-Pin Plastic Quad Flatpack No-Lead, Body 9 x 9 mm, Pitch 0.5 mm; Supplier 1: Digi-Key; Supplier Part Number 1: ADS1110A1IDBVRG4-ND; Mounting Technology: Surface Mount; ComponentLink1Description: Manufacturer URL; ComponentLink1URL: http://www.ti.com/; ComponentLink2Description: Datasheet; ComponentLink2URL: http://www.ti.com/lit/ds/symlink/ads42jb49.pdf; ComponentLink3Description: Package Specification; ComponentLink3URL: http://www.ti.com/litv/pdf/mpqf125e
footprint TI-RGC64-7400X7400TP_V (QFN, 64-Leads, Body 9x9mm, Pitch 0.5mm, Thermal Pad 7.4x7.4mm, TI Recommended)
part A pins: 13 INBP (in) "Differential analog input for channel B", 14 INBM (in) "Differential analog input for channel B", 35 INAM (in) "Differential analog input for channel A", 36 INAP (in) "Differential analog input for channel A", 51 DA1M (out) "JESD204B Serial data output for channel A", 52 DA1P (out) "JESD204B Serial data output for channel A", 53 DA0M (out) "JESD204B Serial data output for channel A", 54 DA0P (out) "JESD204B Serial data output for channel A", 56 DB0P (out) "JESD204B Serial data output for channel B", 57 DB0M (out) "JESD204B Serial data output for channel B", 58 DB1P (out) "JESD204B Serial data output for channel B", 59 DB1M (out) "JESD204B Serial data output for channel B", 61 OVRA (out) "Overrange indication channel A", 62 OVRB (out) "Overrange indication channel B"
part B pins: 4 MODE (in) "Connect to GND", 5 STBY (in) "Standby. Active high with internal pulldown resistor", 6 PDN_GBL (in) "Global power down. Active high with internal pulldown resistor", 8 SYNCP (in) "Synchronization input for JESD204B port", 9 SYNCM (in) "Synchronization input for JESD204B port", 10 CTRL2 (in) "Power down control", 21 VCM (out) "Common mode voltage for analog inputs, 1.9V", 24 CLKINM (in) "Differential clock input for ADC", 25 CLKINP (in) "Differential clock input for ADC", 29 SYSREFP (in) "External sync input", 30 SYSREFM (in) "External sync input", 39 CTRL1 (in) "Power down control", 41 SEN (in) "Serial interface enable", 42 SDATA (in) "Serial interface data input.", 43 SCLK (in) "Serial interface clock input", 44 RESET (in) "Hardware reset. Active high. This pin has an internal 150kO pull-down resistor.", 45 SDOUT (hiz) "Serial interface data output"
part C pins: 1 DGND (power) "Digital ground", 2 DRVDD (power) "Digital 1.8V power supply", 3 DGND (power) "Digital ground", 7 DRVDD (power) "Digital 1.8V power supply", 11 AVDD (power) "Analog 1.8V power supply", 12 AGND (power) "Analog ground", 15 AGND (power) "Analog ground", 16 AVDD (power) "Analog 1.8V power supply", 17 AVDD3V (power) "Analog 3.3V for analog buffer", 18 AVDD (power) "Analog 1.8V power supply", 19 AGND (power) "Analog ground", 20 AGND (power) "Analog ground", 22 AVDD (power) "Analog 1.8V power supply", 23 AGND (power) "Analog ground", 26 AGND (power) "Analog ground", 27 AVDD (power) "Analog 1.8V power supply", 28 AGND (power) "Analog ground", 31 AVDD (power) "Analog 1.8V power supply", 32 AVDD3V (power) "Analog 3.3V for analog buffer", 33 AVDD (power) "Analog 1.8V power supply", 34 AGND (power) "Analog ground", 37 AGND (power) "Analog ground", 38 AVDD (power) "Analog 1.8V power supply", 40 AVDD (power) "Analog 1.8V power supply", 46 DGND (power) "Digital ground", 47 DRVDD (power) "Digital 1.8V power supply", 48 DGND (power) "Digital ground", 49 DRVDD (power) "Digital 1.8V power supply", 50 DGND (power) "Digital ground", 55 IOVDD (power) "Digital 1.8V power supply for the JESD204B transmitter", 60 DRVDD (power) "Digital 1.8V power supply", 63 DGND (power) "Digital ground", 64 DRVDD (power) "Digital 1.8V power supply", 65 EP (power)

## ADS42JB69IRGC25
designator U?
Dual 16-Bit, 250 MSPS ADC, -40 to 85 degC, 64-pin QFN (RGC64), Green (RoHS & no Sb/Br); Manufacturer: Texas Instruments; PartNumber: ADS42JB69IRGC25; # Input Channels: 2; Analog Voltage AV/DD(Max)(V): 3.45; Analog Voltage AV/DD(Min)(V): 3.15; Architecture: Pipeline; Digital Supply(Max)(V): 1.9; Digital Supply(Min)(V): 1.7; Interface: JEDEC 204B; Resolution(Bits): 16; Sample Rate(max)(SPS): 250M; SFDR(dB): 89; SNR(dB): 73.3; SubFamily: High Speed ADC (>10MSPS); DatasheetVersion: SLAS900A; PackageVersion: 4204106/F, 11/2011; PackageReference: RGC64-7400X7400TP; PackageDescription: 64-Pin Plastic Quad Flatpack No-Lead, Body 9 x 9 mm, Pitch 0.5 mm; Supplier 1: Digi-Key; Supplier Part Number 1: 296-14462-2-ND; Eco-Plan: Green (RoHS & no Sb/Br); Mounting Technology: Surface Mount; ComponentLink1Description: Manufacturer URL; ComponentLink1URL: http://www.ti.com/; ComponentLink2Description: Datasheet; ComponentLink2URL: http://www.ti.com/lit/ds/symlink/ads42jb69.pdf; ComponentLink3Description: Package Specification; ComponentLink3URL: http://www.ti.com/litv/pdf/mpqf125e
footprint TI-RGC64-7400X7400TP_V (QFN, 64-Leads, Body 9x9mm, Pitch 0.5mm, Thermal Pad 7.4x7.4mm, TI Recommended)
part A pins: 13 INBP (in) "Differential analog input for channel B", 14 INBM (in) "Differential analog input for channel B", 35 INAM (in) "Differential analog input for channel A", 36 INAP (in) "Differential analog input for channel A", 51 DA1M (out) "JESD204B Serial data output for channel A", 52 DA1P (out) "JESD204B Serial data output for channel A", 53 DA0M (out) "JESD204B Serial data output for channel A", 54 DA0P (out) "JESD204B Serial data output for channel A", 56 DB0P (out) "JESD204B Serial data output for channel B", 57 DB0M (out) "JESD204B Serial data output for channel B", 58 DB1P (out) "JESD204B Serial data output for channel B", 59 DB1M (out) "JESD204B Serial data output for channel B", 61 OVRA (out) "Overrange indication channel A", 62 OVRB (out) "Overrange indication channel B"
part B pins: 4 MODE (in) "Connect to GND", 5 STBY (in) "Standby. Active high with internal pulldown resistor", 6 PDN_GBL (in) "Global power down. Active high with internal pulldown resistor", 8 SYNCP (in) "Synchronization input for JESD204B port", 9 SYNCM (in) "Synchronization input for JESD204B port", 10 CTRL2 (in) "Power down control", 21 VCM (out) "Common mode voltage for analog inputs, 1.9V", 24 CLKINM (in) "Differential clock input for ADC", 25 CLKINP (in) "Differential clock input for ADC", 29 SYSREFP (in) "External sync input", 30 SYSREFM (in) "External sync input", 39 CTRL1 (in) "Power down control", 41 SEN (in) "Serial interface enable", 42 SDATA (in) "Serial interface data input.", 43 SCLK (in) "Serial interface clock input", 44 RESET (in) "Hardware reset. Active high. This pin has an internal 150kO pull-down resistor.", 45 SDOUT (hiz) "Serial interface data output"
part C pins: 1 DGND (power) "Digital ground", 2 DRVDD (power) "Digital 1.8V power supply", 3 DGND (power) "Digital ground", 7 DRVDD (power) "Digital 1.8V power supply", 11 AVDD (power) "Analog 1.8V power supply", 12 AGND (power) "Analog ground", 15 AGND (power) "Analog ground", 16 AVDD (power) "Analog 1.8V power supply", 17 AVDD3V (power) "Analog 3.3V for analog buffer", 18 AVDD (power) "Analog 1.8V power supply", 19 AGND (power) "Analog ground", 20 AGND (power) "Analog ground", 22 AVDD (power) "Analog 1.8V power supply", 23 AGND (power) "Analog ground", 26 AGND (power) "Analog ground", 27 AVDD (power) "Analog 1.8V power supply", 28 AGND (power) "Analog ground", 31 AVDD (power) "Analog 1.8V power supply", 32 AVDD3V (power) "Analog 3.3V for analog buffer", 33 AVDD (power) "Analog 1.8V power supply", 34 AGND (power) "Analog ground", 37 AGND (power) "Analog ground", 38 AVDD (power) "Analog 1.8V power supply", 40 AVDD (power) "Analog 1.8V power supply", 46 DGND (power) "Digital ground", 47 DRVDD (power) "Digital 1.8V power supply", 48 DGND (power) "Digital ground", 49 DRVDD (power) "Digital 1.8V power supply", 50 DGND (power) "Digital ground", 55 IOVDD (power) "Digital 1.8V power supply for the JESD204B transmitter", 60 DRVDD (power) "Digital 1.8V power supply", 63 DGND (power) "Digital ground", 64 DRVDD (power) "Digital 1.8V power supply", 65 EP (power)